# Altium footprint library __ui.PcbLib: 90 footprints (part 6 of 6)
Each footprint in its own frame and in the unit in brackets; x right, y up, seen from the top. Pads: shape width x height; smd on the part's side, far side on the other; paste and mask are expansions set on the pad; w line width, h text height; cw(c..) or ccw(c..) is an arc to the next point about the centre after c.
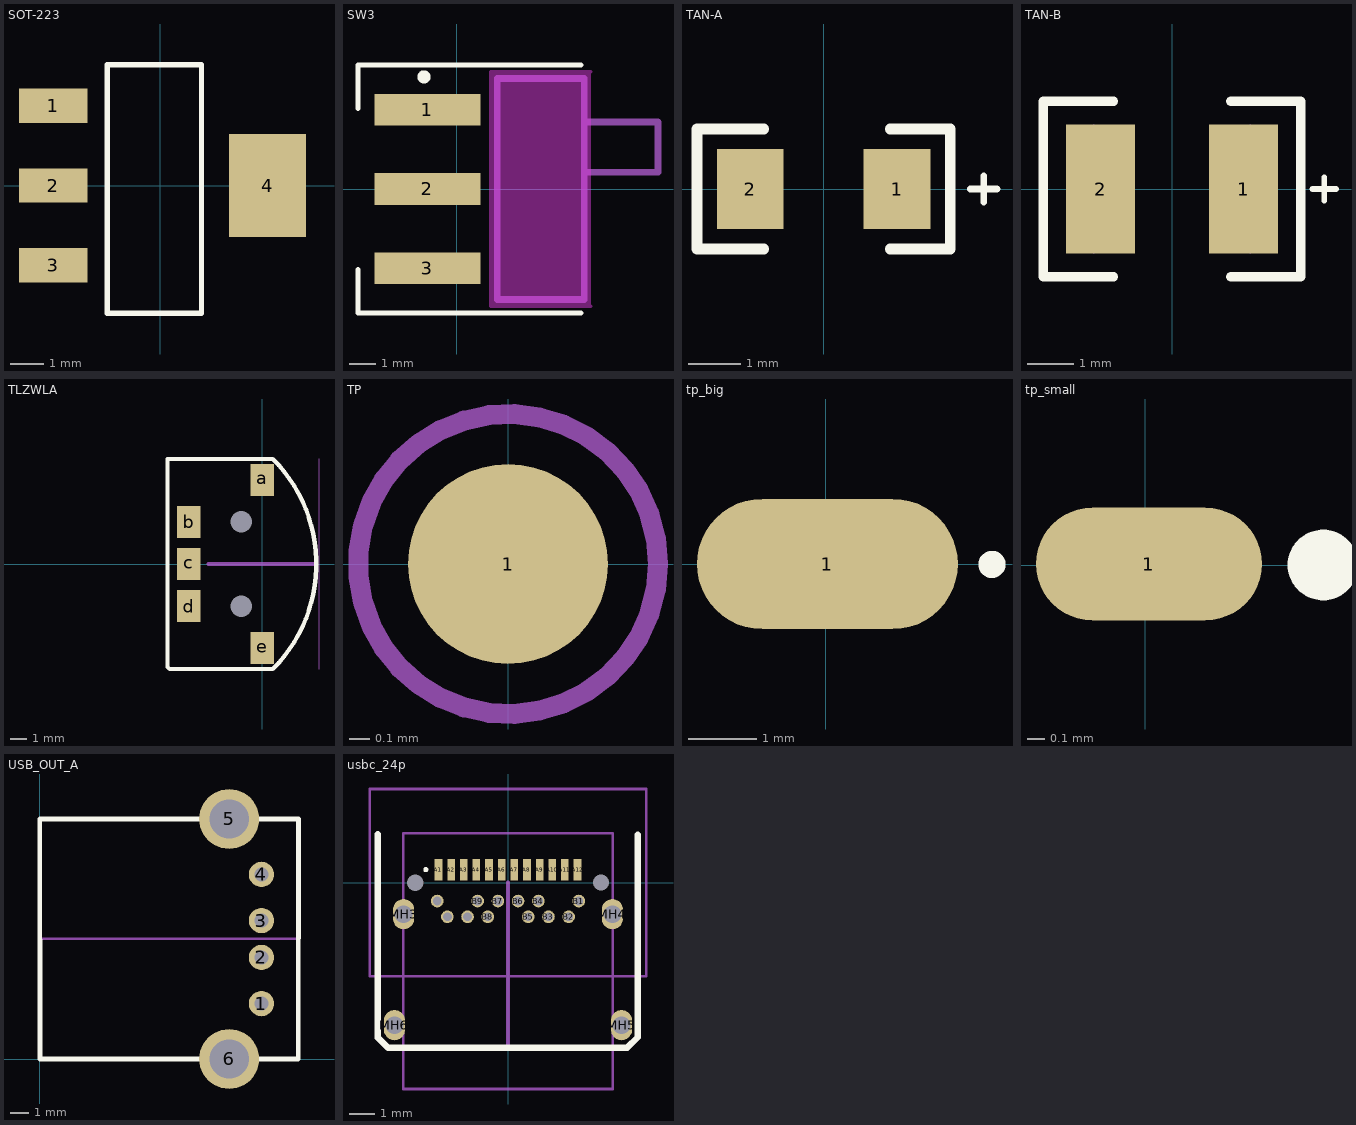
[diagram p5: the footprints below, top view; thin cyan lines are the x and y axes]

## SOT-223 [mil] "Adjustable and fixed low drop positive voltage regulator"
height 70.87
pads (4):
  rect 80x40 smd: 1(-125,93) 2(-125,0) 3(-125,-93)
  rect 90x120 smd: 4(125,0)
Top Overlay:
  lines w6: -62,-149 -62,141 48,141 48,-149 -62,-149
3D body: height 70.87, standoff 7.87, extent -83.66,-131.89 62.01,131.89

## SW3 [mm] "Three poe switch"
height 5.2
pads (3):
  rect 4x1.2 smd: 1(-1.116,3) 2(-1.116,0) 3(-1.116,-3)
Top Overlay:
  circle w0.25: c-1.25,4.25 r0.125
  lines w0.2: -3.75,-3.048 -3.75,-4.699 4.699,-4.699 ; -3.75,3.048 -3.75,4.699 4.699,4.699
Keep-Out Layer:
  board cut-out: 5.08,4.445 1.25,4.445 1.25,-4.445 5.08,-4.445
Keep-Out Layer:
  lines w0.127: 5.08,-4.445 1.27,-4.445 1.27,4.445 5.08,4.445
Mechanical 15:
  lines w0.254: 4.826,0.635 7.62,0.635 7.62,2.54 4.826,2.54 ; 1.524,-4.191 1.524,4.191 4.826,4.191 4.826,-4.191 1.524,-4.191

## TAN-A [mil] "TAN Capacitor"
height 39.37
pads (2):
  rect 50x60 smd: 1(55,0) 2(-55,0)
Top Overlay:
  lines w5: 110,0 130,0 ; 120,-10 120,10
  lines w8: -45,-45 -95,-45 -95,45 -45,45 ; 50,-45 95,-45 95,45 50,45
3D body: height 39.37, standoff 0, extent -47.24,-35.43 47.24,35.43

## TAN-B [mm] "Tan Capacitor"
height 1
pads (2):
  rect 1.5x2.8 smd: 1(1.55,0) 2(-1.55,0)
Top Overlay:
  lines w0.127: 3.048,0 3.556,0 ; 3.302,-0.254 3.302,0.254
  lines w0.203: -1.27,-1.905 -2.794,-1.905 -2.794,1.905 -1.27,1.905 ; 1.27,-1.905 2.794,-1.905 2.794,1.905 1.27,1.905
Mechanical 13:
  lines w0.1: -1.7,-1.35 -1.7,1.35 ; 1.7,-1.35 1.7,1.35
3D body: height 1, standoff 0, extent -1.763,-1.537 1.704,1.539

## TLZWLA [mm]
pads (7):
  rect 1.4x1.95 smd paste+0 mask+0.05: a(0,5.08) b(-4.445,2.54) c(-4.445,0) d(-4.445,-2.54) e(0,-5.08)
  round 0 hole 1.3 unplated mask+0.05: NPTH1(-1.27,-2.54) NPTH2(-1.27,2.54)
Top Overlay:
  lines w0.254: -5.715,-6.223 -5.588,-6.35 0.635,-6.35 ccw(c-5.715,0) 0.635,6.35 -5.715,6.35 -5.715,-6.223
Mechanical 4:
  lines w0.254: -3.25,0 3.25,0
Mechanical 7:
  lines w0.01: 3.429,-6.35 3.429,6.35
  text "EDGE" at 2.667,-3.937 h1
  text "PCB" at 2.667,5.588 h1

## TP [mm] "Testpoint, Surface Mounting, Circular, Pad Diameter 1mm"
height 1
pads (1):
  round 1 smd: 1(0,0)
Mechanical 15:
  circle w0.1: c0,0 r0.75

## tp_big [mm]
pads (1):
  oval 3.81x1.905 smd: 1(0.022,0.006)
Top Overlay:
  circle w0.25: c2.425,0 r0.073

## tp_small [mm]
pads (1):
  oval 1.27x0.635 smd: 1(0.022,0.006)
Top Overlay:
  circle w0.25: c1,0 r0.073

## USB_OUT_A [mil]
pads (6):
  round 55 hole 30: 1(480.7,120.96) 2(480.7,220.96) 3(480.7,300.96) 4(480.7,400.96)
  round 130 hole 85: 5(410.7,520.96) 6(410.7,0.96)
Top Overlay:
  lines w10: 0.7,520.96 0.81,0.96 560.7,0.96 560.98,520.96 ; 1.09,520.96 560.7,520.96
Mechanical 4:
  lines w6: -0.18,261.53 560.84,261.53

## usbc_24p [mm]
pads (30):
  rect 0.3x0.85 smd: A1(-2.75,0.5) A2(-2.25,0.5) A3(-1.75,0.5) A4(-1.25,0.5) A5(-0.75,0.5) A6(-0.25,0.5) A7(0.25,0.5) A8(0.75,0.5) A9(1.25,0.5) A10(1.75,0.5) A11(2.25,0.5) A12(2.75,0.5)
  round 0.5 hole 0.35: B1(2.8,-0.733) B2(2.4,-1.355) B3(1.6,-1.355) B4(1.2,-0.733) B5(0.8,-1.355) B6(0.4,-0.733) B7(-0.4,-0.733) B8(-0.8,-1.355) B9(-1.2,-0.733) B10(-1.6,-1.355) B11(-2.4,-1.355) B12(-2.8,-0.733)
  round 0.3 hole 0.65 unplated: MH1(-3.669,-0.001) MH2(3.679,0.001)
  oval 0.838x1.2 hole 0.7: MH3(-4.13,-1.25) MH4(4.13,-1.25) MH5(4.49,-5.64) MH6(-4.49,-5.64)
Top Overlay:
  lines w0.1: -3.302,0.508 ccw(c-3.252,0.508) -3.202,0.508 ccw(c-3.252,0.508) -3.302,0.508
  lines w0.254: -5.145,1.911 -5.145,-6.143 -4.747,-6.541 4.709,-6.541 5.134,-6.116 5.134,1.886
Mechanical 4:
  lines w0.152: 0,-6.5 0,0
Mechanical 15:
  lines w0.1: -4.136,-8.167 -4.136,1.941 4.147,1.941 4.147,-8.167 -4.136,-8.167
Mechanical 20:
  lines w0.1: -5.47,-3.7 -5.47,3.7 5.47,3.7 5.47,-3.7 -5.47,-3.7